# EAGLE library part AMP_INA4181 (library power_distro)
INAx181 Bidirectional, Low- and High-Side Voltage Output, Current-Sense Amplifiers Common-Mode Range (VCM): ?0.2 V to +26 V High Bandwidth: 350 kHz (A1 Devices) Offset Voltage: ? ±150 µV (Max) at VCM = 0 V ? ±500 µV (Max) at VCM = 12 V Output Slew Rate: 2 V/µs Bidirectional Current-Sensing Capability Accuracy: ? ±1% Gain Error (Max) ? 1-µV/°C Offset Drift (Max) Gain Options: ? 20 V/V (A1 Devices) ? 50 V/V (A2 Devices) ? 100 V/V (A3 Devices) ? 200 V/V (A4 Devices) Quiescent Current: 260 µA Max (INA181)
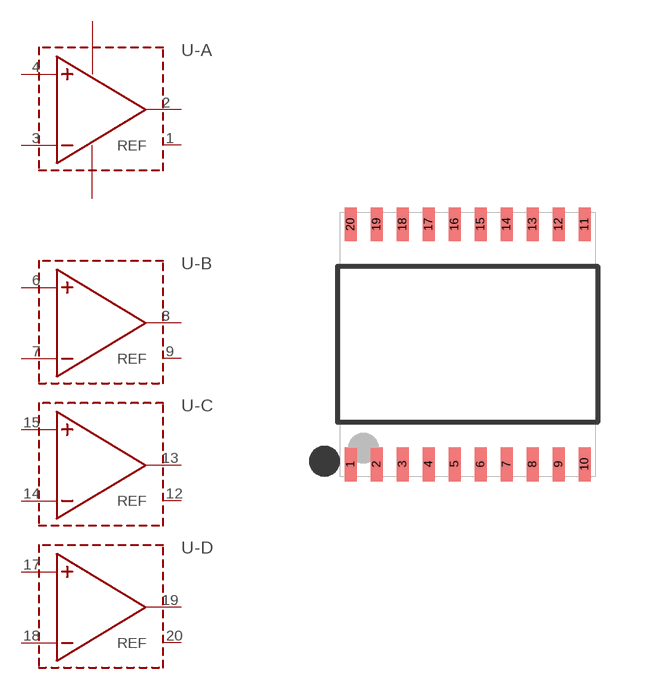
[diagram p3: symbol with the pads of TSSOP-20; footprint TSSOP-20]

Designator prefix U; gates -A=INST_AMP_REF_PWR -B=INST_AMP_W_REF -C=INST_AMP_W_REF -D=INST_AMP_W_REF

## AMP_INA4181 (GAIN: 100V/V; MFG: TEXAS INST; MPN: PINA4181A4PW; PRICE: 1.00; VENDOR: TBD; VPN: TBD)  [TSSOP-20]
1  -A:REF  pas
2  -A:OUT  pas
3  -A:-IN  pas
4  -A:+IN  pas
5  -A:V+  pas
6  -B:+IN  pas
7  -B:-IN  pas
8  -B:OUT  pas
9  -B:REF  pas
12  -C:REF  pas
13  -C:OUT  pas
14  -C:-IN  pas
15  -C:+IN  pas
16  -A:V-  pas
17  -D:+IN  pas
18  -D:-IN  pas
19  -D:OUT  pas
20  -D:REF  pas

## Footprint TSSOP-20 (pad centres in mm)
20-PIN THIN SHRUNK SMALL OUTLINE PACKAGE 0.65MM PITCH, 6.4x4.5MM
smd 0.3 x 0.85: 1 -2.925,-3; 2 -2.275,-3; 3 -1.625,-3; 4 -0.975,-3; 5 -0.325,-3; 6 0.325,-3; 7 0.975,-3; 8 1.625,-3; 9 2.275,-3; 10 2.925,-3; 11 2.925,3; 12 2.275,3; 13 1.625,3; 14 0.975,3; 15 0.325,3; 16 -0.325,3; 17 -0.975,3; 18 -1.625,3; 19 -2.275,3; 20 -2.925,3